# EAGLE library part USB-C (library Framework_components)
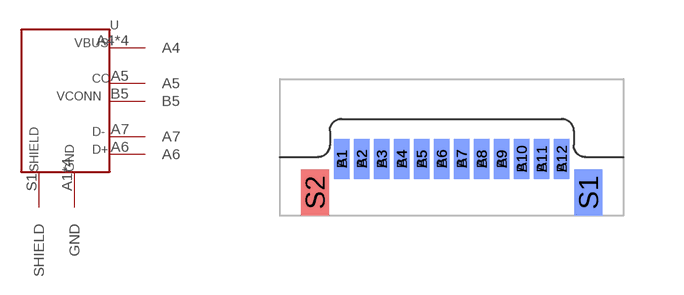
[diagram p0: symbol with the pads of EDGE_MOUNT; footprint EDGE_MOUNT]

Designator prefix -

## USB-C_MOLEX105444 (MOLEX: 105444)  [EDGE_MOUNT]
A1  GND
A4  A4
A5  A5
A6  A6
A7  A7
A9  A4
A12  GND
B1  GND
B4  A4
B5  B5
B9  A4
B12  GND
S1  SHIELD

## Footprint EDGE_MOUNT (pad centres in mm)
smd 0.38 x 1: A1 -2.75,-0.04; A2 -2.25,-0.04; A3 -1.75,-0.04; A4 -1.25,-0.04; A5 -0.75,-0.04; A6 -0.25,-0.04; A7 0.25,-0.04; A8 0.75,-0.04; A9 1.25,-0.04; A10 1.75,-0.04; A11 2.25,-0.04; A12 2.75,-0.04
smd 0.38 x 1 bottom: B1 -2.75,-0.04; B2 -2.25,-0.04; B3 -1.75,-0.04; B4 -1.25,-0.04; B5 -0.75,-0.04; B6 -0.25,-0.04; B7 0.25,-0.04; B8 0.75,-0.04; B9 1.25,-0.04; B10 1.75,-0.04; B11 2.25,-0.04; B12 2.75,-0.04
smd 0.7 x 1.15 bottom: S1 3.42,-0.88
smd 0.7 x 1.15: S2 -3.42,-0.88